# EAGLE library part TPS6291* (library bschulz)
TPS6291x - Low Noise, Low Ripple Buck Converter Characteristics: Vin: 3V ~ 17V Vout: 0.8V ~ 5.5V Output Current: 2A (TPS62912), 3A (TPS62912) IQ: 5mA (typ) Operating Temperature: -40°C to 85°C Digikey: 296-TPS62913RPURCT-ND (3A) <https://www.digikey.com/en/products/detail/texas-instruments/TPS62913RPUR/14004311>
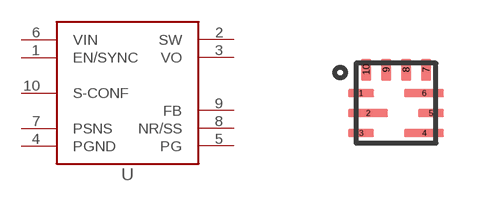
[diagram p178: symbol with the pads of RPU0010A; footprint RPU0010A]

Designator prefix U

## TPS6291 (DISP: TPS6291x; MF: TI), TPS62912 (DIGIKEY: 296-TPS62912RPURCT-ND; DISP: TPS62912; MF: TI; MPN: TPS62912RPUR), TPS62913 (DIGIKEY: 296-TPS62913RPURCT-ND; DISP: TPS62913; MF: TI; MPN: TPS62913RPUR)  [RPU0010A]
1  EN/SYNC  in
2  SW  pwr
3  VO  in
4  PGND  pwr
5  PG  oc
6  VIN  pwr
7  PSNS  in
8  NR/SS  out
9  FB  in
10  S-CONF  out

## Footprint RPU0010A (pad centres in mm)
VQFN-HR (RPU0010A) Datasheet <https://www.ti.com/lit/ds/symlink/tps62913.pdf>
smd 0.65 x 0.2: 1 -0.875,0.25; 3 -0.875,-0.75; 5 0.875,-0.25
smd 1 x 0.2: 2 -0.7,-0.25; 4 0.7,-0.75; 6 0.7,0.25
smd 0.25 x 0.55: 7 0.75,0.838; 8 0.25,0.838; 9 -0.25,0.838; 10 -0.75,0.838